# Altium footprint library SON50P250X250X75-9N.PcbLib: 1 footprints
Each footprint in its own frame and in the unit in brackets; x right, y up, seen from the top. Pads: shape width x height; smd on the part's side, far side on the other; paste and mask are expansions set on the pad; w line width, h text height; cw(c..) or ccw(c..) is an arc to the next point about the centre after c.
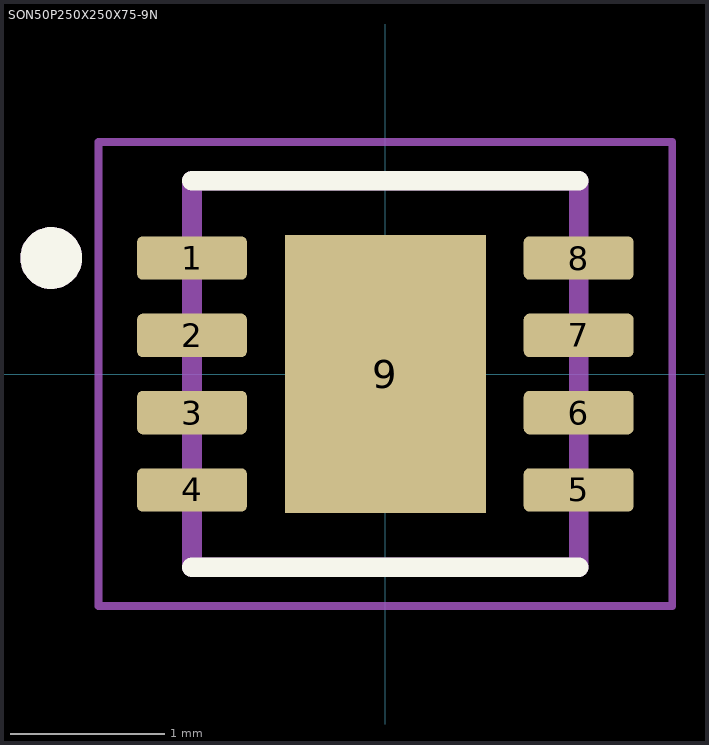
[diagram p0: the footprint, top view; thin cyan lines are the x and y axes]

## SON50P250X250X75-9N [mm]
pads (9):
  rrect25% 0.71x0.28 smd: 1(-1.25,0.75) 2(-1.25,0.25) 3(-1.25,-0.25) 4(-1.25,-0.75) 5(1.25,-0.75) 6(1.25,-0.25) 7(1.25,0.25) 8(1.25,0.75)
  rect 1.3x1.8 smd paste-2: 9(0,0)
Top Overlay:
  circle w0.2: c-2.16,0.75 r0.1
  lines w0.127: -1.25,-1.25 1.25,-1.25 ; -1.25,1.25 1.25,1.25
Top Paste:
  region: 0.41,-0.57 -0.41,-0.57 -0.41,0.57 0.41,0.57
Mechanical 13:
  circle w0.2: c-2.16,0.75 r0.1
  lines w0.127: -1.25,-1.25 1.25,-1.25 1.25,1.25 -1.25,1.25 -1.25,-1.25
Mechanical 15:
  lines w0.05: -1.855,-1.5 1.855,-1.5 1.855,1.5 -1.855,1.5 -1.855,-1.5
3D body "step_temp.STEP": height 0.75, standoff 0, extent -1.25,-1.25 1.25,1.25